# EAGLE library part 691336500006 (library Wurth_Connectors_WR-TBL Pluggable Connector)
WR-TBL Serie 3365 - 5.08 mm Double Level Vertical Header with Flanges KIND PROPERTIES Pitch 5.08 mm MATERIAL PROPERTIES Insulator Material PA66 Insulator Flammability Rating UL94 V-0 Contact Material Brass Contact Plating Tin GENERAL INFORMATION Operating Temperature -40 up to +105 °C Compliance RoHS ELECTRICAL PROPERTIES IR UL 15 A Working Voltage [UL] 300 V (AC) Withstanding Voltage [cULus] 1600 V (AC) Contact Resistance [cULus] 20 mΩ CERTIFICATION cULus Approval E315414 <https://www.we-online.com/catalog/media/o33288v209%20Family_WR-TBL_6913365000xx.jpg> Details see: https://www.we-online.com/catalog/en/TBL_5_08_3365_DOUBLE_LEVEL_VERTICAL_HEADER_W_FLANGES_6913365000XX/ Updated by Ella Wu 2019-12-25 2022(C) Wurth Elektronik
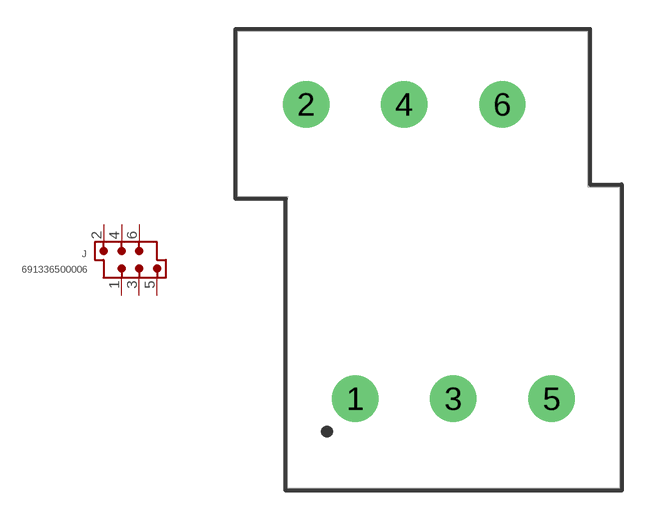
[diagram p247: symbol with the pads of 691336500006; footprint 691336500006]

Designator prefix J

## 691336500006 (DATASHEET-URL: https://www.we-online.com/redexpert/spec/691336500006?ae; IR-UL: 15A; MOUNT: THT; PART-NUMBER: 691336500006; PINS: 6; PITCH: 5.08mm; TYPE: Double Level Vertical; VALUE: 691336500006; WORKING-VOLTAGE-UL: 300V (AC))  [691336500006]
1  1  pas
2  2  pas
3  3  pas
4  4  pas
5  5  pas
6  6  pas

## Footprint 691336500006 (pad centres in mm)
WR-TBL Serie 3365 - 5.08 mm Double Level Vertical Header with Flanges Max Height = 22mm , Pitch 5.08mm , 6pins
drill 1.6: 1 -5.08,-7.62; 2 -7.62,7.62; 3 0,-7.62; 4 -2.54,7.62; 5 5.08,-7.62; 6 2.54,7.62